# Altium footprint library halgeleiders.PcbLib: 1 footprints
Each footprint in its own frame and in the unit in brackets; x right, y up, seen from the top. Pads: shape width x height; smd on the part's side, far side on the other; paste and mask are expansions set on the pad; w line width, h text height; cw(c..) or ccw(c..) is an arc to the next point about the centre after c.
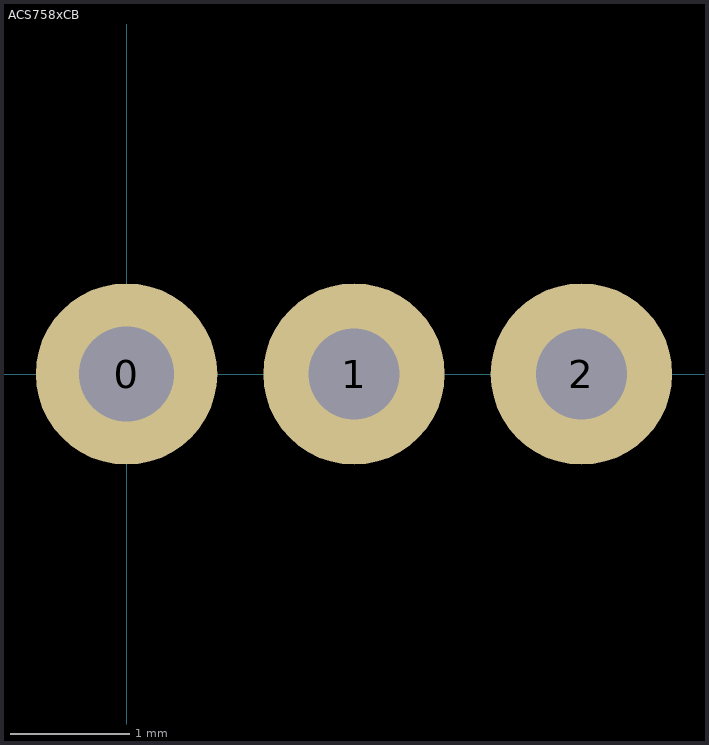
[diagram p0: the footprint, top view; thin cyan lines are the x and y axes]

## ACS758xCB [mil]
pads (3):
  round 60 hole 31.5: 0(0,0)
  round 60 hole 30: 1(75.2,0) 2(150.39,0)